# Altium schematic symbol library template.SchLib: 13 symbols
Pins are listed as number, name and electrical type; pins without a type are passive.

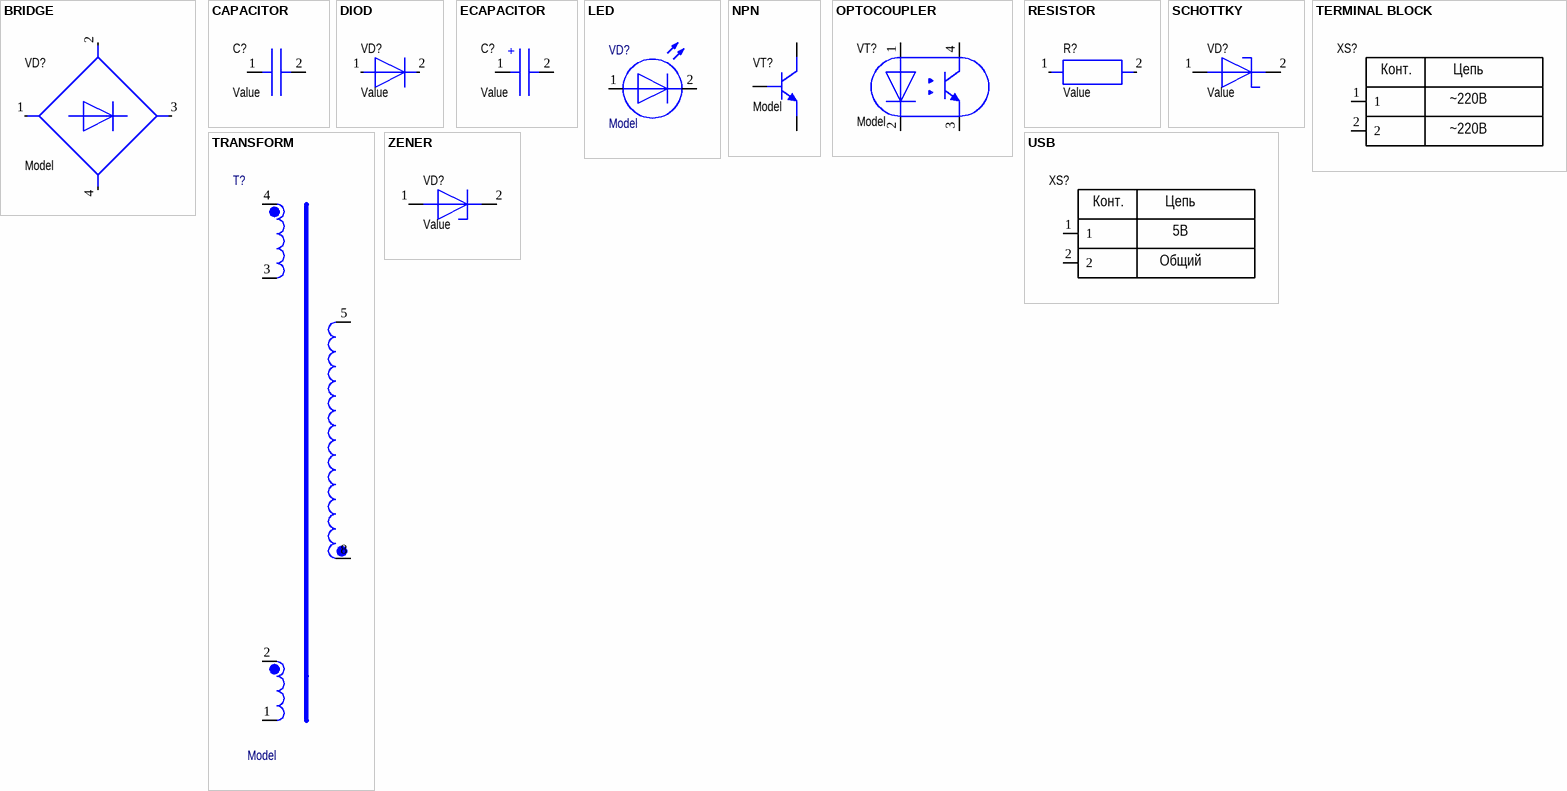
[diagram p0: symbols BRIDGE to ZENER]

## BRIDGE
designator VD?, comment Model
pins: 1, 2, 3, 4

## CAPAСITOR
designator C?, comment Value
pins: 1, 2

## DIOD
designator VD?, comment Value
pins: 1 3, 2

## ECAPAСITOR
designator C?, comment Value
pins: 1, 2
text: +

## LED
designator VD?, comment Model
pins: 1, 2

## NPN
designator VT?, comment Model
pins: 1 E, 2 B, 3 C

## OPTOCOUPLER
designator VT?, comment Model
pins: 1 Anode, 2 Cathode, 3, 4

## RESISTOR
designator R?, comment Value
pins: 1, 2 8

## SCHOTTKY
designator VD?, comment Value
pins: 1 3, 2

## TERMINAL BLOCK
designator XS?  (value not drawn)
pins: 1, 2
text: Конт.; Цепь; ~220B

## TRANSFORM
designator T?, comment Model
pins: 1, 2, 3, 4, 5, 8

## USB
designator XS?  (value not drawn)
pins: 1, 2
text: Конт.; Цепь; 5B; Общий

## ZENER
designator VD?, comment Value
pins: 1 3, 2